# EAGLE library part MCP4901-E/MS (library aarons)
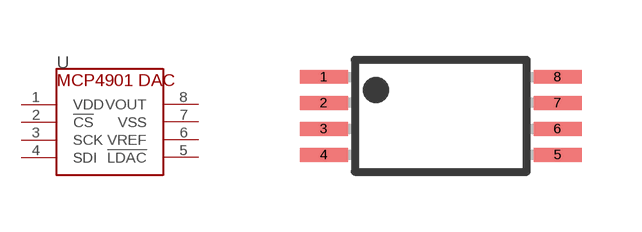
[diagram p4: symbol with the pads of TSSOP8; footprint TSSOP8]

Designator prefix U

## MCP4901-E/MS  [TSSOP8]
1  VDD
2  !CS
3  SCK
4  SDI
5  !LDAC
6  VREF
7  VSS
8  VOUT

## Footprint TSSOP8 (pad centres in mm)
Plastic Small Outline
smd 1.2 x 0.35: 1 -2.925,0.975; 2 -2.925,0.325; 3 -2.925,-0.325; 4 -2.925,-0.975; 5 2.925,-0.975; 6 2.925,-0.325; 7 2.925,0.325; 8 2.925,0.975